# Altium footprint library 3-C-Ceramics.PcbLib: 89 footprints (part 1 of 6)
Each footprint in its own frame and in the unit in brackets; x right, y up, seen from the top. Pads: shape width x height; smd on the part's side, far side on the other; paste and mask are expansions set on the pad; w line width, h text height; cw(c..) or ccw(c..) is an arc to the next point about the centre after c.
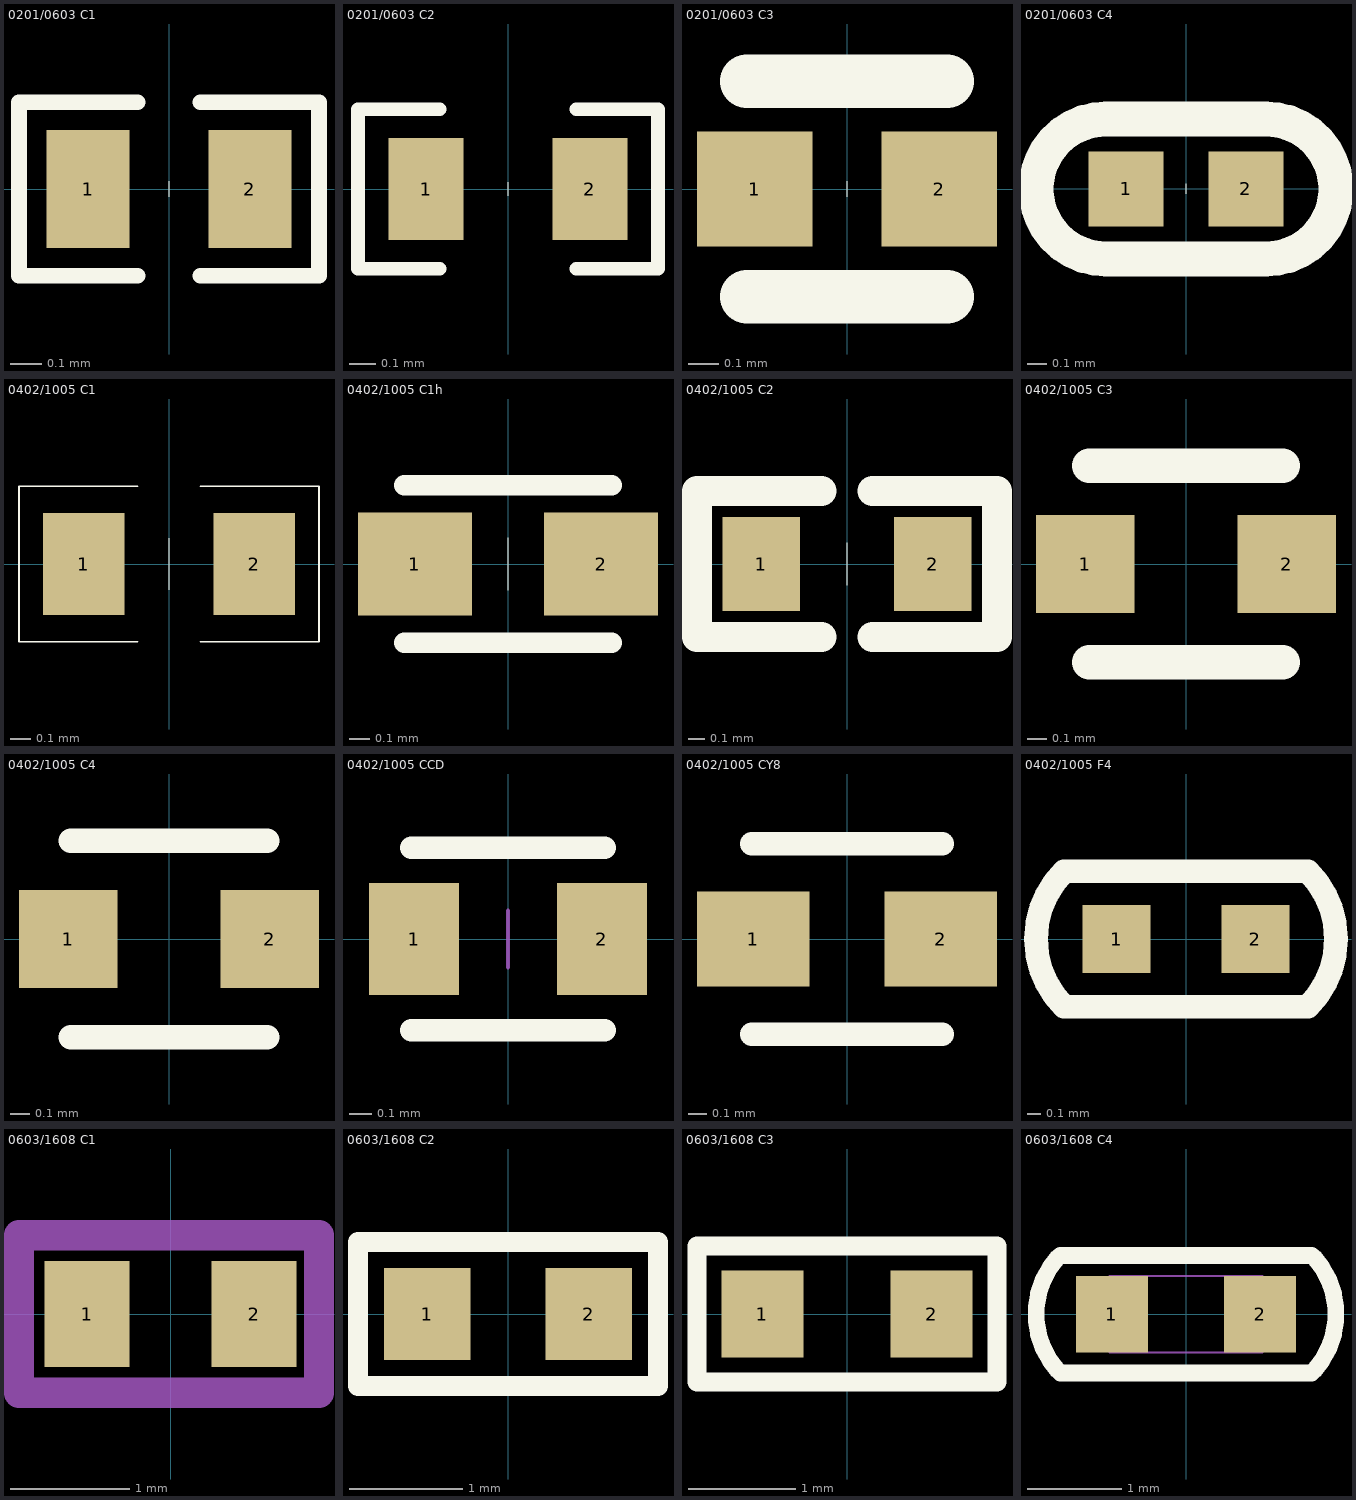
[diagram p0: the footprints below, top view; thin cyan lines are the x and y axes]

## 0201/0603 C1 [mil]
height 1771.65
pads (2):
  rect 10.5x15 smd mask+2: 1(-10.24,0) 2(10.24,0)
Top Overlay:
  lines w0.1: 0,-1 0,1
  lines w2: -4,-11 -19,-11 -19,11 -4,11 ; 4,-11 19,-11 19,11 4,11
3D body "0201-c.stp": height 11.41, standoff -0.41, extent -12,-6 11.62,5.81
3D body "0_381-0_267-0201.stp": height 0.79, standoff 0, extent -15.5,-7.5 -4.99,7.5
3D body "0_381-0_267-0201.stp": height 0.79, standoff 0, extent 4.99,-7.51 15.5,7.49

## 0201/0603 C2 [mil]
height 1771.65
pads (2):
  rect 11x15 smd mask+2: 1(-12,0)
  rect 11x15 smd mask+2.76: 2(12,0)
Top Overlay:
  lines w0.1: 0,-1 0,1
  lines w2: -10,-11.7 -22,-11.7 -22,11.7 -10,11.7 ; 10,-11.7 22,-11.7 22,11.7 10,11.7
3D body "0_381-0_267-0201.stp": height 0.79, standoff 0, extent 6.99,-7.5 17.5,7.5
3D body "0_381-0_267-0201.stp": height 0.79, standoff 0, extent -17.5,-7.5 -6.99,7.5
3D body "0201-c.stp": height 11.41, standoff -0.41, extent -12,-6 11.62,5.81

## 0201/0603 C3 [mil]
height 1771.65
pads (2):
  rect 15x15 smd mask+2: 1(-12,0)
  rect 15x15 smd mask+2.76: 2(12,0)
Top Overlay:
  lines w0.1: 0,-1 0,1
  lines w7: -13,-14 13,-14 ; -13,14 13,14
3D body "0_381-0_381-0201a.stp": height 0.79, standoff 0, extent 4.5,-7.5 19.5,7.5
3D body "0_381-0_381-0201a.stp": height 0.79, standoff 0, extent -19.5,-7.5 -4.5,7.5
3D body "0201-c.stp": height 11.41, standoff -0.41, extent -12,-6 11.62,5.81

## 0201/0603 C4 [mil]
height 1771.65
pads (2):
  rect 15x15 smd mask+2: 1(-12,0)
  rect 15x15 smd mask+2.76: 2(12,0)
Top Overlay:
  lines w0.1: 0,-1 0,1
  lines w7: -16,-14 16,-14 ; -16,14 16,14
  lines w7.01: -16,-14.03 cw(c-16,-0.02) -16,14 ; 16,-14.03 ccw(c16,-0.02) 16,14
3D body "0201-c.stp": height 11.41, standoff -0.41, extent -12,-6 11.62,5.81
3D body "0_381-0_381-0201a.stp": height 0.79, standoff 0, extent -19.5,-7.5 -4.5,7.5
3D body "0_381-0_381-0201a.stp": height 0.79, standoff 0, extent 4.5,-7.5 19.5,7.5

## 0402/1005 C1 [mm]
height 45
pads (2):
  rect 0.4x0.5 smd mask+0.051: 1(-0.419,0) 2(0.419,0)
Top Overlay:
  lines w0.003: 0,-0.127 0,0.127
  lines w0.008: -0.152,-0.381 -0.737,-0.381 -0.737,0.381 -0.152,0.381 ; 0.152,-0.381 0.737,-0.381 0.737,0.381 0.152,0.381
3D body "0_4-0_5-0402.stp": height 0.02, standoff 0, extent 0.222,-0.246 0.622,0.254
3D body "0_4-0_5-0402.stp": height 0.02, standoff 0, extent -0.622,-0.246 -0.222,0.254
3D body "0402-c.stp": height 0.5, standoff 0, extent -0.5,-0.254 0.5,0.246

## 0402/1005 C1h [mm]
height 45
pads (2):
  rect 0.55x0.5 smd mask+0.07: 1(-0.45,0) 2(0.45,0)
Top Overlay:
  lines w0.003: 0,-0.127 0,0.127
  lines w0.1: -0.5,-0.381 0.5,-0.381 ; -0.5,0.381 0.5,0.381
3D body "0_4-0_5-0402.stp": height 0.02, standoff 0, extent 0.333,-0.25 0.733,0.25
3D body "0_4-0_5-0402.stp": height 0.02, standoff 0, extent -0.733,-0.25 -0.333,0.25
3D body "0402-c.stp": height 0.5, standoff 0, extent -0.5,-0.254 0.5,0.246

## 0402/1005 C2 [mil]
pads (2):
  rect 18x22 smd mask+2: 1(-20,0)
  rect 18x22 smd mask+2.76: 2(20,0)
Top Overlay:
  lines w0.1: 0,-5 0,5
  lines w7: -6,-17 -35,-17 -35,17 -6,17 ; 6,-17 35,-17 35,17 6,17
3D body "p056-046.stp": height 0.79, standoff 0, extent 10.94,-11.02 29.05,11.02
3D body "p056-046.stp": height 0.79, standoff 0, extent -29.06,-11.02 -10.95,11.02
3D body "0402-c.stp": height 19.68, standoff 0, extent -19.68,-10 19.68,9.69

## 0402/1005 C3 [mil]
pads (2):
  rect 20x20 smd: 1(-20.5,0)
  rect 20x20 smd mask+2.76: 2(20.5,0)
Top Overlay:
  lines w7: -19.68,-20 19.68,-20 ; -19.68,20 19.68,20
3D body "p051-051.stp": height 0.79, standoff 0, extent -31.03,-10.04 -10.96,10.04
3D body "p051-051.stp": height 0.79, standoff 0, extent 10.96,-10.04 31.04,10.04
3D body "0402-c.stp": height 19.68, standoff 0, extent -19.68,-10 19.68,9.69

## 0402/1005 C4 [mil]
height 1771.65
pads (2):
  rect 20x20 smd mask+2.76: 1(-20.5,0) 2(20.5,0)
Top Overlay:
  lines w5: -20,-20 20,-20 ; -20,20 20,20
3D body "0402-c.stp": height 19.68, standoff 0, extent -19.68,-10 19.68,9.69
3D body "0_508-0_508-0402-3.stp": height 0.79, standoff 0, extent -30.5,-10 -10.5,10
3D body "0_508-0_508-0402-3.stp": height 0.79, standoff 0, extent 10.5,-10 30.5,10

## 0402/1005 CCD [mm]
height 45
pads (2):
  rect 0.4x0.5 smd mask+0.051: 1(-0.419,0) 2(0.419,0)
Top Overlay:
  lines w0.1: -0.432,-0.406 0.432,-0.406 ; -0.432,0.406 0.432,0.406
Mechanical 14:
  lines w0.02: 0,-0.127 0,0.127
3D body "0402-c.stp": height 0.5, standoff 0, extent -0.5,-0.254 0.5,0.246
3D body "0_4-0_5-0402.stp": height 0.02, standoff 0, extent -0.622,-0.246 -0.222,0.254
3D body "0_4-0_5-0402.stp": height 0.02, standoff 0, extent 0.222,-0.246 0.622,0.254

## 0402/1005 CY8 [mm]
pads (2):
  rect 0.6x0.508 smd mask+0.07: 1(-0.5,0) 2(0.5,0)
Top Overlay:
  lines w0.127: -0.508,-0.508 0.508,-0.508 ; -0.508,0.508 0.508,0.508
3D body "0_508-0_508-0402-3.stp": height 0.02, standoff 0, extent 0.305,-0.254 0.813,0.254
3D body "0_508-0_508-0402-3.stp": height 0.02, standoff 0, extent -0.813,-0.254 -0.305,0.254
3D body "0402-c.stp": height 0.5, standoff 0, extent -0.5,-0.254 0.5,0.246

## 0402/1005 F4 [mil]
pads (2):
  rect 20x20 smd mask+2.76: 1(-20.5,0)
  rect 20x20 smd: 2(20.5,0)
Top Overlay:
  lines w7: -36,-20 36,-20 ; -36,20 36,20
  lines w7.01: -36,-20 cw(c-16,0) -36,20 ; 36,-20 ccw(c16,0) 36,20
3D body "p051-051.stp": height 0.79, standoff 0, extent 10.96,-10.04 31.04,10.04
3D body "p051-051.stp": height 0.79, standoff 0, extent -31.03,-10.04 -10.96,10.04
3D body "0402-c.stp": height 19.68, standoff 0, extent -19.68,-10 19.68,9.69

## 0603/1608 C1 [mil]
pads (2):
  rect 28x35 smd mask+2.76: 1(-27.56,0)
  rect 28x35 smd mask+2: 2(27.56,0)
Mechanical 15:
  lines w10: -50,-26 49,-26 49,26 -50,26 -50,-26
3D body "p090-071.stp": height 0.79, standoff 0, extent 14.02,-17.72 41.98,17.71
3D body "p090-071.stp": height 0.79, standoff 0, extent -41.98,-17.71 -14.02,17.72
3D body "0603c.stp": height 31.5, standoff 0, extent -31.5,-16 31.5,15.5

## 0603/1608 C2 [mil]
height 1771.65
pads (2):
  rect 30x32 smd mask+2.76: 1(-28,0)
  rect 30x32 smd: 2(28,0)
Top Overlay:
  lines w7: -52,-25 -52,25 52,25 52,-25 -52,-25
3D body "0603c.stp": height 31.5, standoff 0, extent -31.5,-16 31.5,15.5
3D body "0_8128-0_762-0603.stp": height 0.79, standoff 0, extent -43,-16 -13,16
3D body "0_8128-0_762-0603.stp": height 0.79, standoff 0, extent 13,-16 43,16

## 0603/1608 C3 [mil]
pads (2):
  rect 30x32 smd: 1(-31,0)
  rect 30x32 smd mask+2.76: 2(31,0)
Top Overlay:
  lines w7: -55,-25 -55,25 55,25 55,-25 -55,-25
3D body "0_8128-0_762-0603.stp": height 0.79, standoff 0, extent -46,-16 -16,16
3D body "0603c.stp": height 31.5, standoff 0, extent -31.5,-16 31.5,15.5
3D body "0_8128-0_762-0603.stp": height 0.79, standoff 0, extent 16,-16 46,16

## 0603/1608 C4 [mil]
height 1771.65
pads (2):
  rect 30x32 smd mask+2.76: 1(-31,0)
  rect 30x32 smd: 2(31,0)
Top Overlay:
  lines w7: -52.5,-24.61 52.5,-24.61 ; -52.5,24.61 52.5,24.61
  lines w7.01: -53.51,-23.77 cw(c-27.44,0.11) -53.51,24 ; 53.5,-23.77 ccw(c27.43,0.11) 53.5,24
Bottom Overlay:
Mechanical 15:
  lines w1: -32,-16 -32,16 32,16 32,-16 -32,-16
3D body "0_8128-0_762-0603.stp": height 0.79, standoff 0, extent 16,-16 46,16
3D body "0603c.stp": height 31.5, standoff 0, extent -31.5,-16 31.5,15.5
3D body "0_8128-0_762-0603.stp": height 0.79, standoff 0, extent -46,-16 -16,16